# Altium integrated library Big_Library_Varistor.IntLib: 2 symbols
Pins are listed as number, name and electrical type; pins without a type are passive.

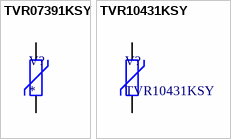
[diagram p0: symbols TVR07391KSY to TVR10431KSY]

## TVR07391KSY
designator V?
Surge Current: 1200A; Max DC Volts: 320V; Max AC Volts: 250V; Tolerance: 10%; Pitch: 5mm; ComponentLink1Description: Link; ComponentLink1URL: https://ozdisan.com/circuit-protections/circuit-surge-and-mixed-protections/varistors/TVR07391KSY/627909
footprint D7-P5-W0.6
pins: 1, 2

## TVR10431KSY
designator V?
VARISTOR DISC 10MM 430V 2.5KA 275VAC 350VDC THT; Surge Current: 2500A; Max DC Volts: 320VDC; Tolerance: 10%; Pitch: 7.5mm; Max AC Volts: 275VAC; ComponentLink1Description: Link; ComponentLink1URL: https://ozdisan.com/devre-koruyucular/devre-akim-ve-gerilim-koruyucular/varistorler/TVR10431KSY/40796
footprint D15-P7.5
pins: 1, 2